# Altium schematic symbol library Schlib1.SchLib: 26 symbols
Pins are listed as number, name and electrical type; pins without a type are passive.

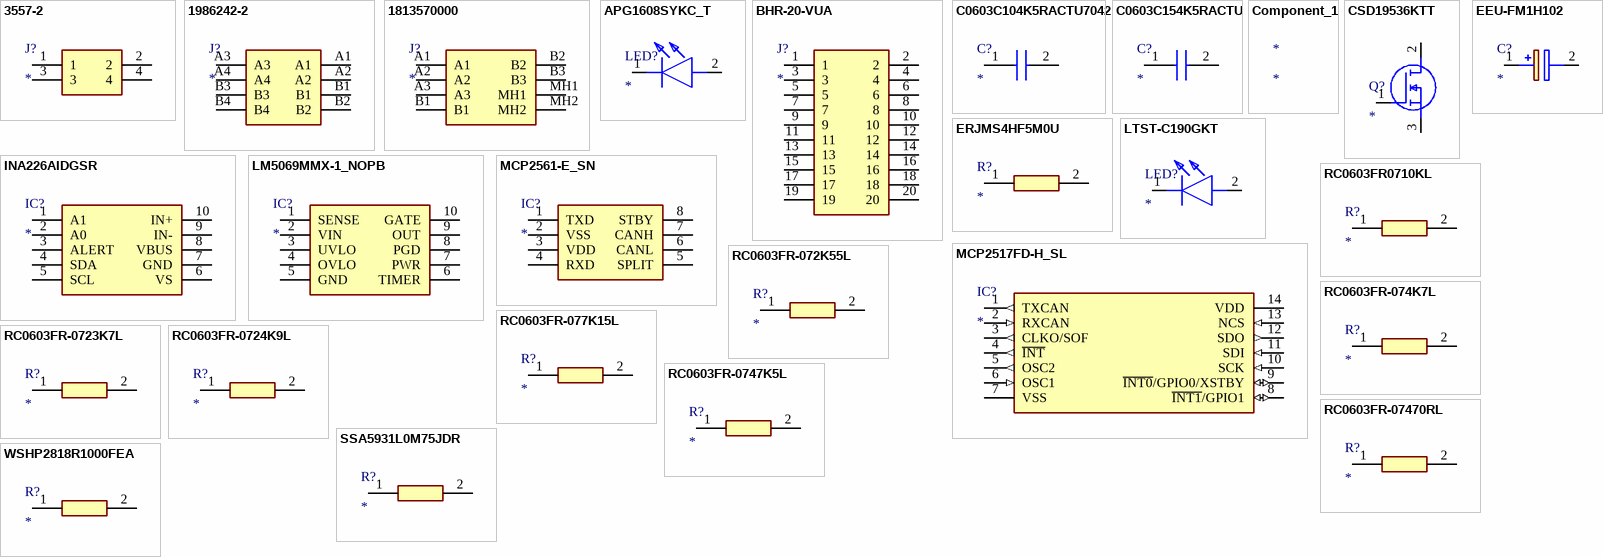
[diagram p0: symbols 3557-2 to WSHP2818R1000FEA]

## 3557-2
designator J?
Connector; Manufacturer_Name: Keystone Electronics; Manufacturer_Part_Number: 3557-2; Description: THM 2 in 1 Auto Blade Holder P/N 3557-2; Datasheet Link: http://www.keyelco.com/product-pdf.cfm?p=296; Mouser Part Number: 534-3557-2; Mouser Price/Stock: https://www.mouser.co.uk/ProductDetail/Keystone-Electronics/3557-2?qs=cxy41lVAGV%2FfbyASjpXK1g%3D%3D; Arrow Part Number: 3557-2; Arrow Price/Stock: https://www.arrow.com/en/products/3557-2/keystone-electronics?region=europe
footprint 3557-2
pins: 1, 2, 3, 4

## 1986242-2
designator J?
Connector; Manufacturer_Name: TE Connectivity; Manufacturer_Part_Number: 1986242-2; Description: Body Features: Product Orientation Vertical | Primary Product Color Green | Configuration Features: Wire Entry Angle 90 | Wire Entry Location Side | Stacked Levels Without | Number of Rows 1 | Number of Positions 2 | Stacking Configuration Side Stackable | Contact Features: Contact Mating Area Plating Material Tin | Contact Current Rating (Max) 125 AMP | Contact Base Material Brass | Dimensions: Wire Size .5  41 MMSQ | Wire Size 20  1 AWG | Electrical Characteristics: Operating Voltage 600 VAC | Hou; Datasheet Link: https://www.te.com/commerce/DocumentDelivery/DDEController?Action=srchrtrv&DocNm=9-1773451-7_HIGH_POWER_TERMINAL_BLOCKS&DocType=Data%20Sheet&DocLang=English&PartCntxt=1986242-2&DocFormat=pdf; Height: 39.3mm; Mouser Part Number: 571-1986242-2; Mouser Price/Stock: https://www.mouser.co.uk/ProductDetail/TE-Connectivity/1986242-2?qs=GE1PmMuiY3hF13Nzyur9lw%3D%3D; Arrow Part Number: 1986242-2; Arrow Price/Stock: https://www.arrow.com/en/products/1986242-2/te-connectivity?region=nac
footprint 19862422
pins: A1, A2, A3, A4, B1, B2, B3, B4

## 1813570000
designator J?
Connector; Manufacturer_Name: Weidmuller; Manufacturer_Part_Number: 1813570000; Description: PCB plug-in connector; Datasheet Link: https://catalog.weidmueller.com/catalog/Start.do?ObjectID=1813570000&_ga=2.122577868.610284068.1671419062-1938212839.1670815619&_gl=1*1ghlydi*_ga*MTkzODIxMjgzOS4xNjcwODE1NjE5*_ga_276D8EYXDF*MTY3MTUwNTUzNy4yMi4xLjE2NzE1MDg2NTMuMC4wLjA.; Height: 13.6mm
footprint 1813570000
pins: A1, A2, A3, B1, B2, B3, MH1, MH2

## APG1608SYKC_T
designator LED?
LED; Manufacturer_Name: Kingbright; Manufacturer_Part_Number: APG1608SYKC/T; Description: Kingbright APG1608SYKC/T; Datasheet Link: https://www.kingbrightusa.com/images/catalog/SPEC/APG1608SYKC-T.pdf; Height: 0.28mm; Mouser Part Number: 604-APG1608SYKC/T; Mouser Price/Stock: https://www.mouser.co.uk/ProductDetail/Kingbright/APG1608SYKC-T?qs=uxmOeTEqoPwi1baBMiknXw%3D%3D; Arrow Part Number: APG1608SYKC/T; Arrow Price/Stock: https://www.arrow.com/en/products/apg1608sykct/kingbright
footprint APG1608SYKCT
pins: 1 K, 2 A

## BHR-20-VUA
designator J?
Connector; Manufacturer_Name: Adam Tech; Manufacturer_Part_Number: BHR-20-VUA; Description: Conn Shrouded Header (4 Sides) HDR 20 POS 2.54mm Solder ST Top Entry Thru-Hole Tray; Datasheet Link: https://datasheet.datasheetarchive.com/originals/distributors/Datasheets_SAMA/695a8166aa40898d0a6b5857fa89f6fe.pdf; Height: 9.1mm; Mouser Part Number: 737-BHR-20-VUA; Mouser Price/Stock: https://www.mouser.co.uk/ProductDetail/Adam-Tech/BHR-20-VUA?qs=dR34hP2JS5AwmTi%252BypH%252BNg%3D%3D; Arrow Part Number: BHR-20-VUA; Arrow Price/Stock: https://www.arrow.com/en/products/bhr-20-vua/adam-tech?utm_currency=USD&region=nac
footprint SHDR20W64P254_2X10_3300X880X910P
pins: 1, 2, 3, 4, 5, 6, 7, 8, 9, 10, 11, 12, 13, 14, 15, 16, 17, 18, 19, 20

## C0603C104K5RACTU7042
designator C?
Capacitor; Manufacturer_Name: KEMET; Manufacturer_Part_Number: C0603C104K5RACTU7042; Description: .100UF 50.0V; Datasheet Link: https://www.arrow.com/en/products/c0603c104k5ractu7042/kemet-corporation; Height: 0.95mm; Arrow Part Number: C0603C104K5RACTU7042; Arrow Price/Stock: https://www.arrow.com/en/products/c0603c104k5ractu7042/kemet-corporation
footprint CAPC1608X95N
pins: 1, 2

## C0603C154K5RACTU
designator C?
Capacitor; Manufacturer_Name: KEMET; Manufacturer_Part_Number: C0603C154K5RACTU; Description: SMD Comm X7R; Datasheet Link: https://content.kemet.com/datasheets/KEM_C1002_X7R_SMD.pdf; Height: 0.87mm; Mouser Part Number: 80-C0603C154K5R; Mouser Price/Stock: https://www.mouser.co.uk/ProductDetail/KEMET/C0603C154K5RACTU?qs=1fdy9CdgnoTOxUP11Cz%2FMw%3D%3D; Arrow Part Number: C0603C154K5RACTU; Arrow Price/Stock: https://www.arrow.com/en/products/c0603c154k5ractu/kemet-corporation
footprint C0603
pins: 1, 2

## Component_1
designator *

## CSD19536KTT
designator Q?
MOSFET (N-Channel); Manufacturer_Name: Texas Instruments; Manufacturer_Part_Number: CSD19536KTT; Description: CSD19536KTT 100 V N-Channel NexFET&#153; Power MOSFET; Datasheet Link: http://www.ti.com/lit/gpn/csd19536ktt; Mouser Part Number: 595-CSD19536KTT; Mouser Price/Stock: https://www.mouser.co.uk/ProductDetail/Texas-Instruments/CSD19536KTT?qs=MiqG6Kq1qKP2NIsb3jZrDg%3D%3D; Arrow Part Number: CSD19536KTT; Arrow Price/Stock: https://www.arrow.com/en/products/csd19536ktt/texas-instruments?region=nac
footprint CSD19536KTTT
pins: 1 G, 2 D, 3 S

## EEU-FM1H102
designator C?
Capacitor Polarised; Manufacturer_Name: Panasonic; Manufacturer_Part_Number: EEU-FM1H102; Description: Al Electrolytic Cap 105C 50V 1000uF Panasonic 1000uF 50 V dc Aluminium Electrolytic Capacitor; Datasheet Link: http://industrial.panasonic.com/cdbs/www-data/pdf/RDF0000/ABA0000C1018.pdf; Height: 27mm; Mouser Part Number: 667-EEU-FM1H102; Mouser Price/Stock: https://www.mouser.co.uk/ProductDetail/Panasonic/EEU-FM1H102?qs=zRgoiOxxqPKLOuQ%2FWAJo1g%3D%3D; Arrow Part Number: EEU-FM1H102; Arrow Price/Stock: https://www.arrow.com/en/products/eeu-fm1h102/panasonic
footprint CAPPRD750W85D1600H2700
pins: 1 +, 2 -

## ERJMS4HF5M0U
designator R?
Resistor; Manufacturer_Name: Panasonic; Manufacturer_Part_Number: ERJMS4HF5M0U; Description: Panasonic ERJMS4H Series Metal Plate Current Sensing Surface Mount Resistor 2512 Case 5m +/-1% 3W +/-75ppm/C; Datasheet Link: https://industrial.panasonic.com/cdbs/www-data/pdf/RDN0000/AOA0000C319.pdf; Height: 1.35mm
footprint RESC6432X135N
pins: 1, 2

## INA226AIDGSR
designator IC?
Integrated Circuit; Manufacturer_Name: Texas Instruments; Manufacturer_Part_Number: INA226AIDGSR; Description: 36-V; Datasheet Link: https://componentsearchengine.com/Datasheets/1/INA226AIDGSR.pdf; Height: 1.1mm; Mouser Part Number: 595-INA226AIDGSR; Mouser Price/Stock: https://www.mouser.co.uk/ProductDetail/Texas-Instruments/INA226AIDGSR?qs=tQG3bEuiOZD4quG3egR36g%3D%3D; Arrow Part Number: INA226AIDGSR; Arrow Price/Stock: https://www.arrow.com/en/products/ina226aidgsr/texas-instruments?region=nac
footprint SOP50P490X110-10N
pins: 1 A1, 2 A0, 3 ALERT, 4 SDA, 5 SCL, 6 VS, 7 GND, 8 VBUS, 9 IN-, 10 IN+

## LM5069MMX-1_NOPB
designator IC?
Integrated Circuit; Manufacturer_Name: Texas Instruments; Manufacturer_Part_Number: LM5069MMX-1/NOPB; Description: Positive High Voltage Hot Swap / Inrush Current Controller with Power Limiting; Datasheet Link: http://www.ti.com/lit/gpn/LM5069; Height: 1.1mm; Mouser Part Number: 926-LM5069MMX-1/NOPB; Mouser Price/Stock: https://www.mouser.co.uk/ProductDetail/Texas-Instruments/LM5069MMX-1-NOPB?qs=QbsRYf82W3F2vxtHa3yE4Q%3D%3D; Arrow Part Number: LM5069MMX-1/NOPB; Arrow Price/Stock: https://www.arrow.com/en/products/lm5069mmx-1nopb/texas-instruments?utm_currency=USD&region=nac
footprint SOP50P490X110-10N
pins: 1 SENSE, 2 VIN, 3 UVLO, 4 OVLO, 5 GND, 6 TIMER, 7 PWR, 8 PGD, 9 OUT, 10 GATE

## LTST-C190GKT
designator LED?
LED; Manufacturer_Name: Lite-On; Manufacturer_Part_Number: LTST-C190GKT; Description: Standard LEDs - SMD Green Clear 569nm; Datasheet Link: https://media.digikey.com/pdf/Data%20Sheets/Lite-On%20PDFs/LTST-C190GKT.pdf; Height: 0.9mm; Mouser Part Number: 859-LTST-C190GKT; Mouser Price/Stock: https://www.mouser.co.uk/ProductDetail/LITEON/LTST-C190GKT?qs=drxkyCeiWgbQzclgbojDOg%3D%3D; Arrow Part Number: LTST-C190GKT; Arrow Price/Stock: https://www.arrow.com/en/products/ltst-c190gkt/lite-on-technology?utm_currency=USD&region=nac
footprint LEDC1608X90N
pins: 1 K, 2 A

## MCP2517FD-H_SL
designator IC?
Integrated Circuit; Manufacturer_Name: Microchip; Manufacturer_Part_Number: MCP2517FD-H/SL; Description: MICROCHIP - MCP2517FD-H/SL. - STAND-ALONE CAN FD CONTROLLER W/SPI INTERFACE; Datasheet Link: https://componentsearchengine.com/Datasheets/2/MCP2517FD-H_SL.pdf; Height: 1.75mm; Mouser Part Number: 579-MCP2517FD-H/SL; Mouser Price/Stock: https://www.mouser.co.uk/ProductDetail/Microchip-Technology/MCP2517FD-H-SL?qs=HXFqYaX1Q2z%252BNRuEes7E5A%3D%3D; Arrow Part Number: MCP2517FD-H/SL; Arrow Price/Stock: https://www.arrow.com/en/products/mcp2517fd-hsl/microchip-technology?region=nac
footprint SOIC127P600X175-14N
pins: 1 TXCAN (out), 2 RXCAN (in), 3 CLKO/SOF (out), 4 ~{INT} (out), 5 OSC2 (out), 6 OSC1 (in), 7 VSS (power), 8 ~{INT1}/GPIO1 (io), 9 ~{INT0}/GPIO0/XSTBY (io), 10 SCK (in), 11 SDI (in), 12 SDO (out), 13 NCS (in), 14 VDD (power)

## MCP2561-E_SN
designator IC?
Integrated Circuit; Manufacturer_Name: Microchip; Manufacturer_Part_Number: MCP2561-E/SN; Description: CAN Transceiver 1Mbps 5V 125degC SOIC8 Microchip MCP2561-E/SN; Datasheet Link: http://uk.rs-online.com/web/p/products/7990216; Height: 1.75mm; Mouser Part Number: 579-MCP2561-E/SN; Mouser Price/Stock: https://www.mouser.co.uk/ProductDetail/Microchip-Technology/MCP2561-E-SN?qs=6qKXPk0vzx28OXZ8VYnZ2A%3D%3D; Arrow Part Number: MCP2561-E/SN; Arrow Price/Stock: https://www.arrow.com/en/products/mcp2561-esn/microchip-technology?utm_currency=USD&region=nac
footprint SOIC127P600X175-8N
pins: 1 TXD, 2 VSS, 3 VDD, 4 RXD, 5 SPLIT, 6 CANL, 7 CANH, 8 STBY

## RC0603FR0710KL
designator R?
Resistor; Manufacturer_Name: KEMET; Manufacturer_Part_Number: RC0603FR0710KL; Description: YAGEO (PHYCOMP) RC0603 F; Datasheet Link: http://www.yageo.com/documents/recent/PYu-RC0603_51_RoHS_L_v5.pdf; Height: 0.55mm; Arrow Part Number: RC0603FR0710KL; Arrow Price/Stock: https://www.arrow.com/en/products/rc0603fr-0710kl/yageo
footprint RESC1608X55N
pins: 1, 2

## RC0603FR-072K55L
designator R?
Resistor; Manufacturer_Name: KEMET; Manufacturer_Part_Number: RC0603FR-072K55L; Description: RESISTOR; Datasheet Link: http://www.yageo.com/documents/recent/PYu-RC0603_51_RoHS_L_v5.pdf; Height: 0.55mm; Mouser Part Number: 603-RC0603FR-072K55L; Mouser Price/Stock: https://www.mouser.com/Search/Refine.aspx?Keyword=603-RC0603FR-072K55L
footprint RESC1608X55N
pins: 1, 2

## RC0603FR-074K7L
designator R?
Resistor; Manufacturer_Name: YAGEO; Manufacturer_Part_Number: RC0603FR-074K7L; Description: Yageo 4.7k; Datasheet Link: https://componentsearchengine.com/Datasheets/2/RC0603FR-074K7L.pdf; Height: 0.55mm; Mouser Part Number: 603-RC0603FR-074K7L; Mouser Price/Stock: https://www.mouser.co.uk/ProductDetail/YAGEO/RC0603FR-074K7L?qs=gt6vzsuosg37y0l7Vt36bQ%3D%3D; Arrow Part Number: RC0603FR-074K7L; Arrow Price/Stock: https://www.arrow.com/en/products/rc0603fr-074k7l/yageo?utm_currency=USD&region=europe
footprint RESC1608X55N
pins: 1, 2

## RC0603FR-077K15L
designator R?
Resistor; Manufacturer_Name: KEMET; Manufacturer_Part_Number: RC0603FR-077K15L; Description: Yageo Thick Film Surface Mount Resistor 0603 Case 7.15k +/-1% 0.1W +/-100ppm/C; Datasheet Link: http://www.yageo.com/documents/recent/PYu-RC0603_51_RoHS_L_v5.pdf; Height: 0.55mm; Mouser Part Number: 603-RC0603FR-077K15L; Mouser Price/Stock: https://www.mouser.co.uk/ProductDetail/YAGEO/RC0603FR-077K15L?qs=2cAdsCoAWRH0BxijgDyAtA%3D%3D; Arrow Part Number: RC0603FR-077K15L; Arrow Price/Stock: https://www.arrow.com/en/products/rc0603fr-077k15l/yageo?region=nac
footprint RESC1608X55N
pins: 1, 2

## RC0603FR-0723K7L
designator R?
Resistor; Manufacturer_Name: KEMET; Manufacturer_Part_Number: RC0603FR-0723K7L; Description: 23.7k 0603 Thick Film Surface Mount Resistor +/-1% 0.1W RC0603FR-0723K7L; Datasheet Link: http://www.yageo.com/documents/recent/PYu-RC0603_51_RoHS_L_v5.pdf; Height: 0.55mm; Mouser Part Number: 603-RC0603FR-0723K7L; Mouser Price/Stock: https://www.mouser.co.uk/ProductDetail/Yageo/RC0603FR-0723K7L/?qs=diQw95jMAeNvW01KGekl2w%3D%3D
footprint RESC1608X55N
pins: 1, 2

## RC0603FR-0724K9L
designator R?
Resistor; Manufacturer_Name: YAGEO; Manufacturer_Part_Number: RC0603FR-0724K9L; Description: YAGEO - RC0603FR-0724K9L - SMD Chip Resistor; Datasheet Link: https://componentsearchengine.com/Datasheets/2/RC0603FR-0724K9L.pdf; Height: 0.55mm; Mouser Part Number: 603-RC0603FR-0724K9L; Mouser Price/Stock: https://www.mouser.co.uk/ProductDetail/YAGEO/RC0603FR-0724K9L?qs=diQw95jMAeOCjvc8VIQQfA%3D%3D
footprint RESC1608X55N
pins: 1, 2

## RC0603FR-0747K5L
designator R?
Resistor; Manufacturer_Name: KEMET; Manufacturer_Part_Number: RC0603FR-0747K5L; Description: RESISTOR; Datasheet Link: http://www.yageo.com/documents/recent/PYu-RC0603_51_RoHS_L_v5.pdf; Height: 0.55mm; Mouser Part Number: 603-RC0603FR-0747K5L; Mouser Price/Stock: https://www.mouser.co.uk/ProductDetail/YAGEO/RC0603FR-0747K5L?qs=gt6vzsuosg1%252Bk7pUJwAM9w%3D%3D; Arrow Part Number: RC0603FR-0747K5L; Arrow Price/Stock: https://www.arrow.com/en/products/rc0603fr-0747k5l/yageo?region=europe
footprint RESC1608X55N
pins: 1, 2

## RC0603FR-07470RL
designator R?
Resistor; Manufacturer_Name: KEMET; Manufacturer_Part_Number: RC0603FR-07470RL; Description: YAGEO - RC0603FR-07470RL - RES; Datasheet Link: http://www.yageo.com/documents/recent/PYu-RC0603_51_RoHS_L_v5.pdf; Height: 0.55mm; Mouser Part Number: 603-RC0603FR-07470RL; Mouser Price/Stock: https://www.mouser.co.uk/ProductDetail/YAGEO/RC0603FR-07470RL?qs=gt6vzsuosg2Xv5elfMBXPA%3D%3D
footprint RESC1608X55N
pins: 1, 2

## SSA5931L0M75JDR
designator R?
Resistor; Manufacturer_Name: LITTELFUSE; Manufacturer_Part_Number: SSA5931L0M75JDR; Description: 750 Ohms +/-5% 10W Chip Resistor Nonstandard Current Sense; Datasheet Link: https://www.littelfuse.com/media?resourcetype=datasheets&itemid=70d56cd7-0fc3-4a62-93c9-7bee8cc82f45&filename=littelfuse-current-shunt-resistor-ssa-datasheet; Height: 0.38mm
footprint SSA5931L0M75JDR
pins: 1, 2

## WSHP2818R1000FEA
designator R?
Resistor; Manufacturer_Name: Vishay; Manufacturer_Part_Number: WSHP2818R1000FEA; Description: Current Sense Resistors - SMD 10W .1ohms 1%; Datasheet Link: https://www.vishay.com/docs/30347/wshp2818.pdf; Height: 1.75mm; Mouser Part Number: 71-WSHP2818R1000FEA; Mouser Price/Stock: https://www.mouser.co.uk/ProductDetail/Vishay-Dale/WSHP2818R1000FEA?qs=WY0B%252Bpw29jMhv12f1sGakg%3D%3D; Arrow Part Number: WSHP2818R1000FEA; Arrow Price/Stock: https://www.arrow.com/en/products/wshp2818r1000fea/vishay?utm_currency=USD&region=nac
footprint WSHP2818R0200FEA
pins: 1, 2